# EAGLE library part SUBD09F (library mylib)
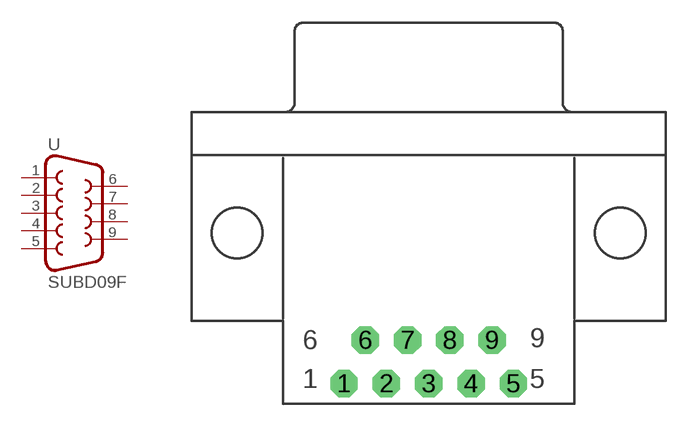
[diagram p22: symbol with the pads of SUBD09F; footprint SUBD09F]

Designator prefix -

## SUBD09F  [SUBD09F]
1  1  pas
2  2  pas
3  3  pas
4  4  pas
5  5  pas
6  6  pas
7  7  pas
8  8  pas
9  9  pas

## Footprint SUBD09F (pad centres in mm)
drill 1.194 pad 1.524 octagon: 1 -5.537,-8.57; 2 -2.769,-8.57; 3 0,-8.57; 4 2.769,-8.57; 5 5.537,-8.57; 6 -4.153,-5.726; 7 -1.384,-5.726; 8 1.384,-5.726; 9 4.153,-5.726